# EAGLE library part SAW-125MHZ (library triquint-dt)
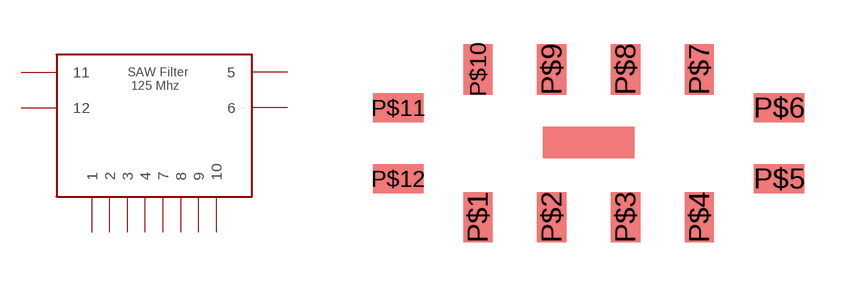
[diagram p0: symbol with the pads of SAW-125M-SMP; footprint SAW-125M-SMP]

Designator prefix SAW

## SAW-125MHZ  [SAW-125M-SMP]
P$1  1
P$2  2
P$3  3
P$4  4
P$5  5
P$6  6
P$7  7
P$8  8
P$9  9
P$10  10
P$11  11
P$12  12

## Footprint SAW-125M-SMP (pad centres in mm)
smd 0.99 x 1.7: P$1 1.6,1; P$2 4.1,1; P$3 6.6,1; P$4 9.1,1; P$7 9.1,6; P$8 6.6,6; P$9 4.1,6; P$10 1.6,6
smd 1.7 x 0.99: P$5 11.8,2.3; P$6 11.8,4.7; P$11 -1.1,4.7; P$12 -1.1,2.3